# EAGLE library part SP6231 (library sepic)
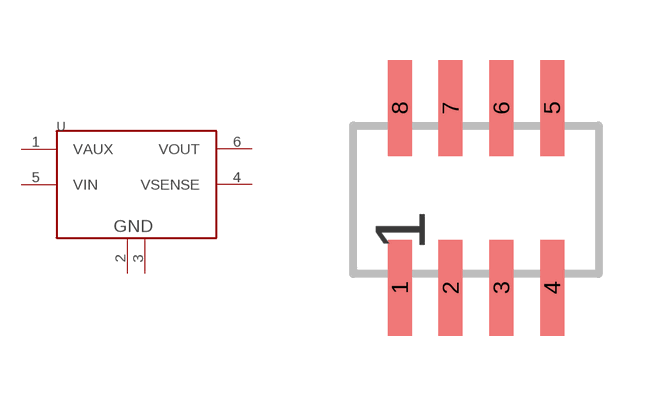
[diagram p0: symbol with the pads of NSOIC08; footprint NSOIC08]

Designator prefix -

## SP6231  [NSOIC08]
1  VAUX  pwr
2  GND  pwr
3  GND2  pwr
4  VSENSE
5  VIN  pwr
6  VOUT  pwr

## Footprint NSOIC08 (pad centres in mm)
SMALL OUTLINE PACKAGE
smd 0.6 x 2.4: 1 -1.905,-2.2; 2 -0.635,-2.2; 3 0.635,-2.2; 4 1.905,-2.2; 5 1.905,2.3; 6 0.635,2.3; 7 -0.635,2.3; 8 -1.905,2.3